# Altium footprint library Footprints.PcbLib: 15 footprints
Each footprint in its own frame and in the unit in brackets; x right, y up, seen from the top. Pads: shape width x height; smd on the part's side, far side on the other; paste and mask are expansions set on the pad; w line width, h text height; cw(c..) or ccw(c..) is an arc to the next point about the centre after c.
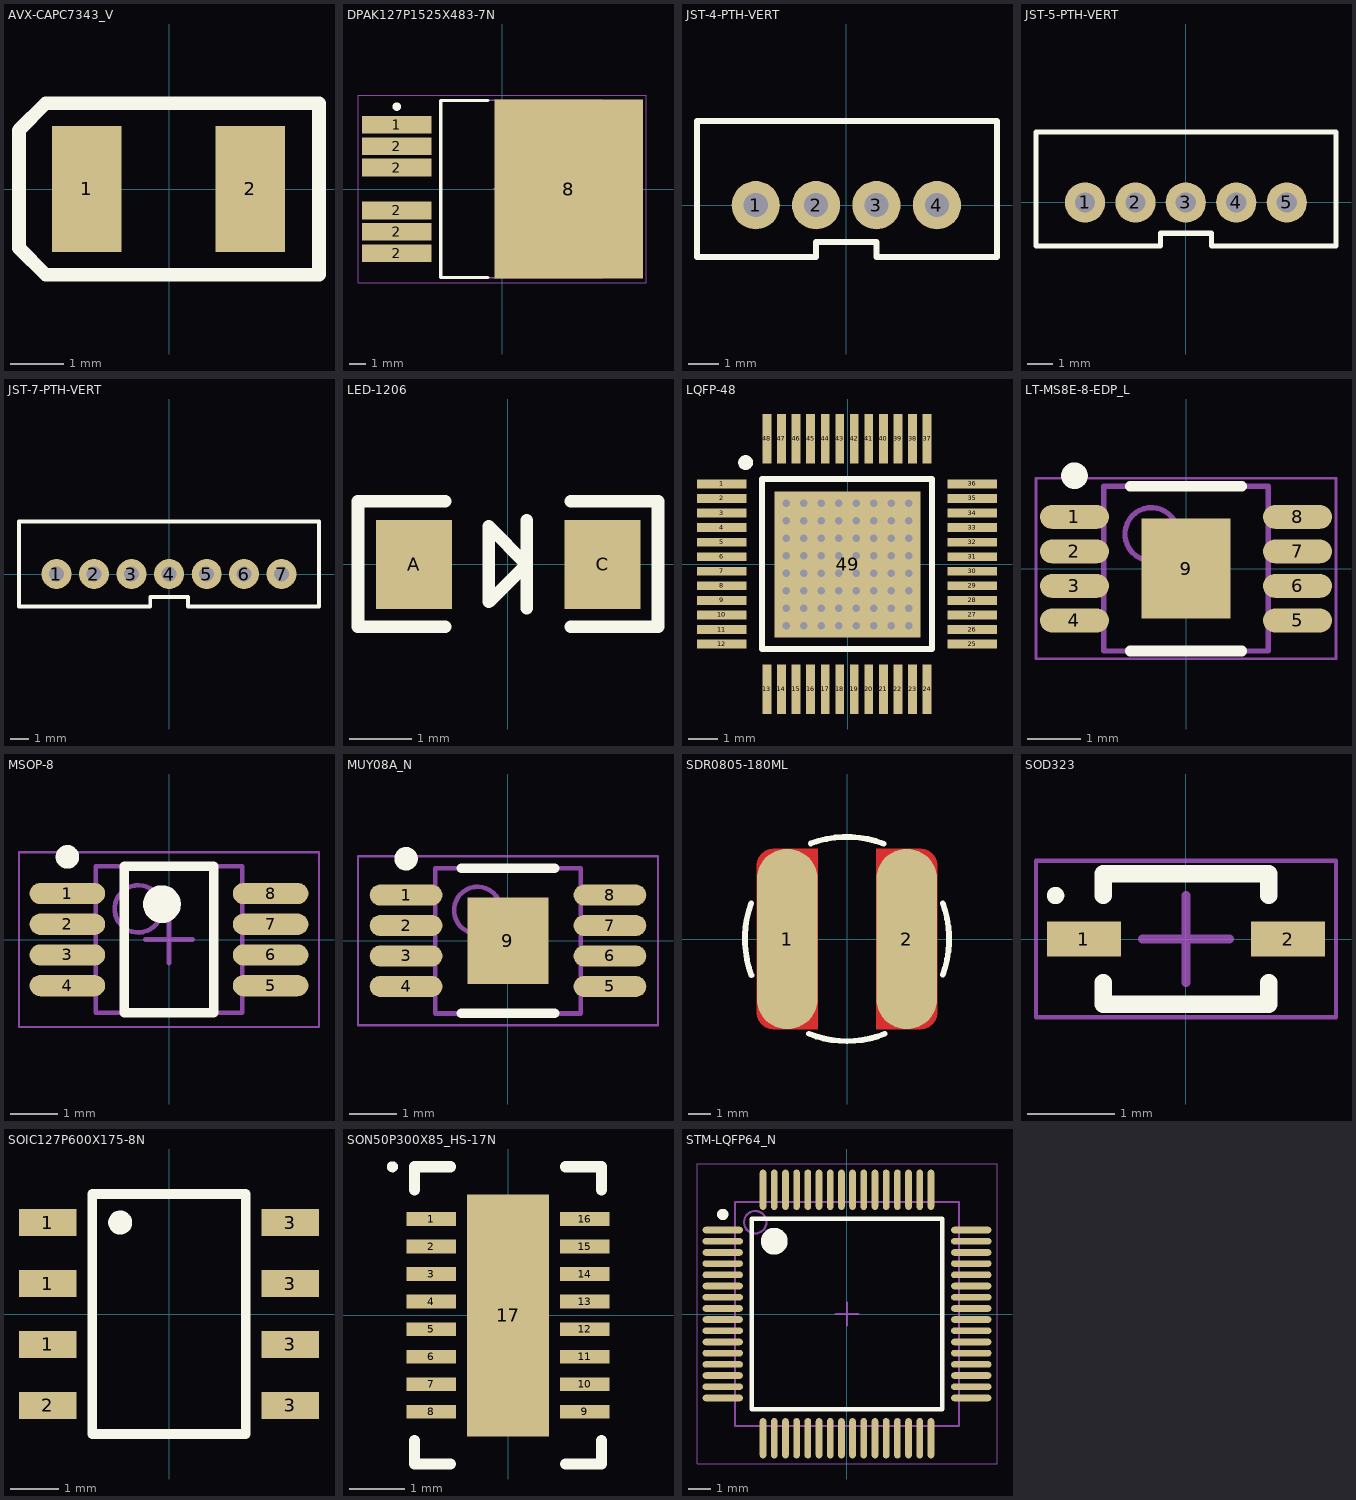
[diagram p0: the footprints below, top view; thin cyan lines are the x and y axes]

## AVX-CAPC7343_V [mm] "SMT Capacitor, 2 Leads, Body 7.3x4.3mm"
pads (2):
  rect 1.3x2.35 smd: 1(-1.535,0.001) 2(1.515,0.001)
Top Overlay:
  lines w0.254: -2.8,-1.1 -2.3,-1.6 2.8,-1.6 2.8,1.597 -2.299,1.601 -2.8,1.1 -2.8,-1.1
3D body: height 1.9, standoff 0, extent -2.1,-1.1 2.1,1.1

## DPAK127P1525X483-7N [mm] "D2-PAK, 7-Pads, Body 7.93x8.63mm (max), IPC Medium Density"
height 4.83
pads (7):
  rect 4.15x1.05 smd mask+0.051: 1(-6.25,3.81) 2(-6.25,-3.81) 2(-6.25,-2.54) 2(-6.25,-1.27) 2(-6.25,1.27) 2(-6.25,2.54)
  rect 8.8x10.6 smd: 8(3.95,0)
Top Overlay:
  circle w0.25: c-6.25,4.885 r0.125
  lines w0.2: -0.85,-5.25 -3.65,-5.25 -3.65,5.25 -0.85,5.25
Mechanical 13:
  lines w0.1: -3.65,-5.275 6,-5.275 6,5.275 -3.65,5.275 -3.65,-5.275
Mechanical 15:
  lines w0.05: -8.55,-5.55 8.55,-5.55 8.55,5.55 -8.55,5.55 -8.55,-5.55
  lines w0.1: -0.5,0 0.5,0 ; 0,-0.5 0,0.5
3D body: height 4.2, standoff 0, extent -7.004,-5 8,5

## JST-4-PTH-VERT [mil]
pads (4):
  round 63 hole 31.5: 1(-118.11,0) 2(-39.37,0) 3(39.37,0) 4(118.37,0)
Top Overlay:
  lines w8: -194.88,-67.84 -39.37,-67.84 -39.37,-48.16 39.37,-48.16 39.37,-67.84 196.85,-67.84 196.85,110 -194.88,110 -194.88,-67.84
3D body: height 236.22, standoff -133.86, extent -194.88,-66.93 194.88,110.24

## JST-5-PTH-VERT [mil]
pads (5):
  round 63 hole 31.5: 1(-157.48,0) 2(-78.74,0) 3(0,0) 4(79,0) 5(158,0)
Top Overlay:
  lines w8: -234.25,-67.84 -234.25,110 235,110 235,-67.84 40,-67.84 40,-48.16 -39.37,-48.16 -39.37,-67.84 -234.25,-67.84
3D body: height 236.22, standoff -133.86, extent -236.22,-68.9 232.28,108.27

## JST-7-PTH-VERT [mil]
pads (7):
  round 63 hole 31.5: 1(-236.22,0) 2(-157.48,0) 3(-78.74,0) 4(0.26,0) 5(79.26,0) 6(157.48,0) 7(236.22,0)
Top Overlay:
  lines w8: -314.96,-67.84 -39.37,-67.84 -39.37,-48.16 40,-48.16 40,-67.84 314.96,-67.84 314.96,110 -314.96,110 -314.96,-67.84
3D body: height 236.22, standoff -133.86, extent -316.93,-66.93 309.06,110.24

## LED-1206 [mil]
pads (2):
  rect 48x56 smd: A(-59.06,0) C(60,0)
Top Overlay:
  lines w8: -39.37,-39.37 -94.49,-39.37 -94.49,40 -39.37,40 ; 12,-27.56 12,0 ; 12,28 12,0 ; 40,-39.37 95,-39.37 95,40 40,40 ; 12,0 -11.81,-23.62 -11.81,24 12,0
3D body: height 43.31, standoff -0.39, extent -62.99,-31.5 62.99,31.5

## LQFP-48 [mm]
pads (49):
  rect 1.7x0.3 smd mask+0.076: 1(-4.318,2.767) 2(-4.318,2.267) 3(-4.318,1.767) 4(-4.318,1.267) 5(-4.318,0.767) 6(-4.318,0.267) 7(-4.318,-0.233) 8(-4.318,-0.733) 9(-4.318,-1.233) 10(-4.318,-1.733) 11(-4.318,-2.233) 12(-4.318,-2.733) 25(4.282,-2.733) 26(4.282,-2.233) 27(4.282,-1.733) 28(4.282,-1.233) 29(4.282,-0.733) 30(4.282,-0.233) 31(4.282,0.267) 32(4.282,0.767) 33(4.282,1.267) 34(4.282,1.767) 35(4.282,2.267) 36(4.282,2.767)
  rect 0.3x1.7 smd mask+0.076: 13(-2.768,-4.283) 14(-2.268,-4.283) 15(-1.768,-4.283) 16(-1.268,-4.283) 17(-0.768,-4.283) 18(-0.268,-4.283) 19(0.232,-4.283) 20(0.732,-4.283) 21(1.232,-4.283) 22(1.732,-4.283) 23(2.232,-4.283) 24(2.732,-4.283) 37(2.732,4.317) 38(2.232,4.317) 39(1.732,4.317) 40(1.232,4.317) 41(0.732,4.317) 42(0.232,4.317) 43(-0.268,4.317) 44(-0.768,4.317) 45(-1.268,4.317) 46(-1.768,4.317) 47(-2.268,4.317) 48(-2.768,4.317)
  rect 5x5 smd: 49(0,0)
via -2.1,-2.1 diameter 0.508 hole 0.254
via -1.5,-2.1 diameter 0.508 hole 0.254
via -0.9,-2.1 diameter 0.508 hole 0.254
via -0.3,-2.1 diameter 0.508 hole 0.254
via 0.3,-2.1 diameter 0.508 hole 0.254
via 0.9,-2.1 diameter 0.508 hole 0.254
via 1.5,-2.1 diameter 0.508 hole 0.254
via 2.1,-2.1 diameter 0.508 hole 0.254
via -2.1,-1.5 diameter 0.508 hole 0.254
via -1.5,-1.5 diameter 0.508 hole 0.254
via -0.9,-1.5 diameter 0.508 hole 0.254
via -0.3,-1.5 diameter 0.508 hole 0.254
via 0.3,-1.5 diameter 0.508 hole 0.254
via 0.9,-1.5 diameter 0.508 hole 0.254
via 1.5,-1.5 diameter 0.508 hole 0.254
via 2.1,-1.5 diameter 0.508 hole 0.254
via -2.1,-0.9 diameter 0.508 hole 0.254
via -1.5,-0.9 diameter 0.508 hole 0.254
via -0.9,-0.9 diameter 0.508 hole 0.254
via -0.3,-0.9 diameter 0.508 hole 0.254
via 0.3,-0.9 diameter 0.508 hole 0.254
via 0.9,-0.9 diameter 0.508 hole 0.254
via 1.5,-0.9 diameter 0.508 hole 0.254
via 2.1,-0.9 diameter 0.508 hole 0.254
via -2.1,-0.3 diameter 0.508 hole 0.254
via -1.5,-0.3 diameter 0.508 hole 0.254
via -0.9,-0.3 diameter 0.508 hole 0.254
via -0.3,-0.3 diameter 0.508 hole 0.254
via 0.3,-0.3 diameter 0.508 hole 0.254
via 0.9,-0.3 diameter 0.508 hole 0.254
via 1.5,-0.3 diameter 0.508 hole 0.254
via 2.1,-0.3 diameter 0.508 hole 0.254
via -2.1,0.3 diameter 0.508 hole 0.254
via -1.5,0.3 diameter 0.508 hole 0.254
via -0.9,0.3 diameter 0.508 hole 0.254
via -0.3,0.3 diameter 0.508 hole 0.254
via 0.3,0.3 diameter 0.508 hole 0.254
via 0.9,0.3 diameter 0.508 hole 0.254
via 1.5,0.3 diameter 0.508 hole 0.254
via 2.1,0.3 diameter 0.508 hole 0.254
via -2.1,0.9 diameter 0.508 hole 0.254
via -1.5,0.9 diameter 0.508 hole 0.254
via -0.9,0.9 diameter 0.508 hole 0.254
via -0.3,0.9 diameter 0.508 hole 0.254
via 0.3,0.9 diameter 0.508 hole 0.254
via 0.9,0.9 diameter 0.508 hole 0.254
via 1.5,0.9 diameter 0.508 hole 0.254
via 2.1,0.9 diameter 0.508 hole 0.254
via -2.1,1.5 diameter 0.508 hole 0.254
via -1.5,1.5 diameter 0.508 hole 0.254
via -0.9,1.5 diameter 0.508 hole 0.254
via -0.3,1.5 diameter 0.508 hole 0.254
via 0.3,1.5 diameter 0.508 hole 0.254
via 0.9,1.5 diameter 0.508 hole 0.254
via 1.5,1.5 diameter 0.508 hole 0.254
via 2.1,1.5 diameter 0.508 hole 0.254
via 2.1,2.1 diameter 0.508 hole 0.254
via 1.5,2.1 diameter 0.508 hole 0.254
via 0.9,2.1 diameter 0.508 hole 0.254
via 0.3,2.1 diameter 0.508 hole 0.254
via -0.3,2.1 diameter 0.508 hole 0.254
via -0.9,2.1 diameter 0.508 hole 0.254
via -1.5,2.1 diameter 0.508 hole 0.254
via -2.1,2.1 diameter 0.508 hole 0.254
Top Overlay:
  circle w0.254: c-3.5,3.5 r0.127
  lines w0.2: -2.933,-2.898 2.897,-2.898 2.897,2.932 -2.933,2.932 -2.933,-2.898
3D body: height 1.5, standoff 0, extent -4.5,-4.5 4.5,4.5

## LT-MS8E-8-EDP_L [mm] "SOP, 8-Leads, Body 3.1x3.1mm, Pitch 0.65mm, Thermal Pad 1.88x1.68mm, IPC High Density"
height 1.1
pads (9):
  oval 1.3x0.45 smd: 1(-2.1,0.975) 2(-2.1,0.325) 3(-2.1,-0.325) 4(-2.1,-0.975) 5(2.1,-0.975) 6(2.1,-0.325) 7(2.1,0.325) 8(2.1,0.975)
  rect 1.68x1.88 smd: 9(0,0)
Top Overlay:
  circle w0.25: c-2.1,1.75 r0.125
  lines w0.2: -1.05,-1.55 1.05,-1.55 ; -1.05,1.55 1.05,1.55
Mechanical 13:
  circle w0.1: c-0.65,0.65 r0.5
  lines w0.1: -1.55,-1.55 -1.55,1.55 1.55,1.55 1.55,-1.55 -1.55,-1.55
Mechanical 15:
  lines w0.05: -2.825,-1.7 -2.825,1.7 2.825,1.7 2.825,-1.7 -2.825,-1.7
  lines w0.1: -0.5,0 0.5,0 ; 0,-0.5 0,0.5
3D body: height 1.1, standoff 0.05, extent -1.55,-1.55 1.55,1.55

## MSOP-8 [mm] "SOP, 8-Leads, Body 3x3mm, Pitch 0.65mm, IPC Medium Density"
pads (8):
  oval 1.6x0.45 smd: 1(-2.15,0.975) 2(-2.15,0.325) 3(-2.15,-0.325) 4(-2.15,-0.975) 5(2.15,-0.975) 6(2.15,-0.325) 7(2.15,0.325) 8(2.15,0.975)
Top Overlay:
  circle w0.4: c-0.15,0.75 r0.2
  circle w0.25: c-2.15,1.75 r0.125
  lines w0.2: -0.95,-1.55 0.95,-1.55 0.95,1.55 -0.95,1.55 -0.95,-1.55
Mechanical 13:
  circle w0.1: c-0.65,0.65 r0.5
  lines w0.1: -1.55,-1.55 1.55,-1.55 1.55,1.55 -1.55,1.55 -1.55,-1.55
Mechanical 15:
  lines w0.05: -3.175,-1.85 3.175,-1.85 3.175,1.85 -3.175,1.85 -3.175,-1.85
  lines w0.1: -0.5,0 0.5,0 ; 0,-0.5 0,0.5
3D body: height 0.05, standoff 0, extent -1.55,-1.55 1.55,1.55

## MUY08A_N [mm] "TSOP, 8-Leads, Body 3x3mm, Pitch 0.65mm, Thermal Pad, IPC Medium Density"
height 1.09
pads (9):
  oval 1.55x0.45 smd: 1(-2.175,0.975) 2(-2.175,0.325) 3(-2.175,-0.325) 4(-2.175,-0.975) 5(2.175,-0.975) 6(2.175,-0.325) 7(2.175,0.325) 8(2.175,0.975)
  rect 1.73x1.85 smd: 9(0,0)
Top Overlay:
  circle w0.25: c-2.175,1.75 r0.125
  lines w0.2: -1,-1.55 1,-1.55 ; -1,1.55 1,1.55
Mechanical 13:
  circle w0.1: c-0.65,0.65 r0.5
  lines w0.1: -1.55,-1.55 -1.55,1.55 1.55,1.55 1.55,-1.55 -1.55,-1.55
Mechanical 15:
  lines w0.05: -3.2,-1.8 -3.2,1.8 3.2,1.8 3.2,-1.8 -3.2,-1.8
  lines w0.1: -0.5,0 0.5,0 ; 0,-0.5 0,0.5
3D body: height 1.09, standoff 0.06, extent -1.55,-1.55 1.55,1.55

## SDR0805-180ML [mm]
pads (2):
  rrect100% 2.7x8 smd: 1(-2.65,0) 2(2.65,0)
Top Layer:
  region: -3.25,4 -1.3,4 -1.3,-4 -3.25,-4 -3.299,-4 -3.446,-3.981 -3.628,-3.905 -3.785,-3.785 -3.905,-3.628 -3.981,-3.446 -4,-3.299 -4,-3.25 -4,3.25 -4,3.299 -3.981,3.446 -3.905,3.628 -3.785,3.785 -3.628,3.905 -3.446,3.981 -3.299,4
  region: 3.25,4 1.3,4 1.3,-4 3.25,-4 3.299,-4 3.446,-3.981 3.628,-3.905 3.785,-3.785 3.905,-3.628 3.981,-3.446 4,-3.299 4,-3.25 4,3.25 4,3.299 3.981,3.446 3.905,3.628 3.785,3.785 3.628,3.905 3.446,3.981 3.299,4
Top Overlay:
  lines w0.254: -4.24,1.59 ccw(c0,0) -4.235,-1.603 ; -1.682,-4.204 ccw(c0,0) 1.676,-4.206 ; -1.603,4.235 cw(c0,0) 1.625,4.226 ; 4.239,-1.59 ccw(c0,0) 4.239,1.59
3D body: height 5.3, standoff 0, extent -3.9,-3.9 3.9,3.9

## SOD323 [mm] "SODFL, 2-Leads, Body 1.30x2.57mm, IPC Medium Density"
height 1.14
pads (2):
  rect 0.85x0.4 smd: 1(-1.175,0) 2(1.175,0)
Top Overlay:
  circle w0.1: c-1.5,0.5 r0.05
  lines w0.2: -0.95,-0.5 -0.95,-0.75 0.95,-0.75 0.95,-0.5 ; -0.95,0.5 -0.95,0.75 0.95,0.75 0.95,0.5
Mechanical 15:
  lines w0.05: -1.725,-0.9 1.725,-0.9 1.725,0.9 -1.725,0.9 -1.725,-0.9
  lines w0.1: -0.5,0 0.5,0 ; 0,-0.5 0,0.5
3D body: height 1.14, standoff 0, extent -0.95,-0.725 0.95,0.725

## SOIC127P600X175-8N [mm] "SOIC, 8-Leads, Body 4.90x3.90mm, Pitch 1.27mm, IPC Medium Density"
height 1.75
pads (8):
  rect 1.194x0.56 smd: 1(-2.528,-0.635) 1(-2.528,0.635) 1(-2.528,1.905) 2(-2.528,-1.905) 3(2.527,-1.905) 3(2.527,-0.635) 3(2.527,0.635) 3(2.527,1.905)
Top Overlay:
  circle w0.25: c-1.016,1.905 r0.125
  lines w0.2: -1.6,-2.5 1.6,-2.5 1.6,2.5 -1.6,2.5 -1.6,-2.5

## SON50P300X85_HS-17N [mm] "SON, 16-Leads, Body 5.00x3.00mm, Pitch 0.50mm, Thermal Pad 4.40x1.49mm, IPC Medium Density"
height 0.85
pads (17):
  rect 0.9x0.25 smd mask+0.076: 1(-1.395,1.75) 2(-1.395,1.25) 3(-1.395,0.75) 4(-1.395,0.25) 5(-1.395,-0.25) 6(-1.395,-0.75) 7(-1.395,-1.25) 8(-1.395,-1.75) 9(1.395,-1.75) 10(1.395,-1.25) 11(1.395,-0.75) 12(1.395,-0.25) 13(1.395,0.25) 14(1.395,0.75) 15(1.395,1.25) 16(1.395,1.75)
  rect 1.49x4.4 smd mask+0.076: 17(0,0)
Top Overlay:
  circle w0.1: c-2.1,2.7 r0.05
  lines w0.2: -1.7,-2.275 -1.7,-2.7 -1.045,-2.7 ; -1.7,2.275 -1.7,2.7 -1.045,2.7 ; 1.045,-2.7 1.7,-2.7 1.7,-2.275 ; 1.045,2.7 1.7,2.7 1.7,2.275
3D body: height 0.8, standoff 0, extent -1.56,-2.05 1.56,2.05

## STM-LQFP64_N [mm] "Thin QFP, 64-Leads, Body 10x10mm, Pitch 0.5mm, IPC Medium Density"
height 1.6
pads (64):
  oval 1.8x0.3 smd: 1(-5.55,3.75) 2(-5.55,3.25) 3(-5.55,2.75) 4(-5.55,2.25) 5(-5.55,1.75) 6(-5.55,1.25) 7(-5.55,0.75) 8(-5.55,0.25) 9(-5.55,-0.25) 10(-5.55,-0.75) 11(-5.55,-1.25) 12(-5.55,-1.75) 13(-5.55,-2.25) 14(-5.55,-2.75) 15(-5.55,-3.25) 16(-5.55,-3.75) 33(5.55,-3.75) 34(5.55,-3.25) 35(5.55,-2.75) 36(5.55,-2.25) 37(5.55,-1.75) 38(5.55,-1.25) 39(5.55,-0.75) 40(5.55,-0.25) 41(5.55,0.25) 42(5.55,0.75) 43(5.55,1.25) 44(5.55,1.75) 45(5.55,2.25) 46(5.55,2.75) 47(5.55,3.25) 48(5.55,3.75)
  oval 0.3x1.8 smd: 17(-3.75,-5.55) 18(-3.25,-5.55) 19(-2.75,-5.55) 20(-2.25,-5.55) 21(-1.75,-5.55) 22(-1.25,-5.55) 23(-0.75,-5.55) 24(-0.25,-5.55) 25(0.25,-5.55) 26(0.75,-5.55) 27(1.25,-5.55) 28(1.75,-5.55) 29(2.25,-5.55) 30(2.75,-5.55) 31(3.25,-5.55) 32(3.75,-5.55) 49(3.75,5.55) 50(3.25,5.55) 51(2.75,5.55) 52(2.25,5.55) 53(1.75,5.55) 54(1.25,5.55) 55(0.75,5.55) 56(0.25,5.55) 57(-0.25,5.55) 58(-0.75,5.55) 59(-1.25,5.55) 60(-1.75,5.55) 61(-2.25,5.55) 62(-2.75,5.55) 63(-3.25,5.55) 64(-3.75,5.55)
Top Overlay:
  circle w0.25: c-5.55,4.45 r0.125
  circle w0.6: c-3.25,3.25 r0.3
  lines w0.2: -4.25,-4.25 -4.25,4.25 4.25,4.25 4.25,-4.25 -4.25,-4.25
Mechanical 13:
  circle w0.1: c-4.1,4.1 r0.5
  lines w0.1: -5,-5 -5,5 5,5 5,-5 -5,-5
Mechanical 15:
  lines w0.05: -6.7,-6.7 -6.7,6.7 6.7,6.7 6.7,-6.7 -6.7,-6.7
  lines w0.1: -0.5,0 0.5,0 ; 0,-0.5 0,0.5
3D body: height 1.6, standoff 0.05, extent -5,-5 5,5